# Altium schematic symbol library nrf2401.SchLib: 1 symbol
Pins are listed as number, name and electrical type; pins without a type are passive.

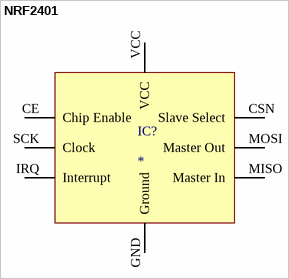
[diagram p0: symbol NRF2401]

## NRF2401
designator IC?
Nrf2401 Wireless Transceiver
footprint nrf2401
pins: CE Chip Enable, CSN Slave Select, GND Ground, IRQ Interrupt, MISO Master In, MOSI Master Out, SCK Clock, VCC